# EAGLE library part CON_HOLE_6POS (library James_custom)
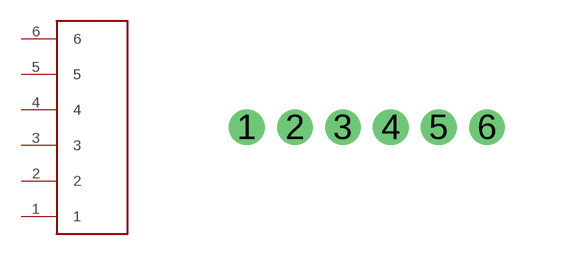
[diagram p16: symbol with the pads of CON_HOLE_POS6; footprint CON_HOLE_POS6]

Designator prefix -

## CON_HOLE_6POS  [CON_HOLE_POS6]
1  1
2  2
3  3
4  4
5  5
6  6

## Footprint CON_HOLE_POS6 (pad centres in mm)
drill 0.381 pad 0.737: 1 -3,0; 2 -1.8,0; 3 -0.6,0; 4 0.6,0; 5 1.8,0; 6 3,0